# Altium schematic symbol library Screw_Test.SchLib: 1 symbol
Pins are listed as number, name and electrical type; pins without a type are passive.

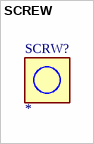
[diagram p0: symbol SCREW]

## SCREW
designator SCRW?
Screw (No Connection); Manufacturer Part Number: *